# Altium schematic symbol library F52R-1A7H1-11008.SchLib: 1 symbol
Pins are listed as number, name and electrical type; pins without a type are passive.

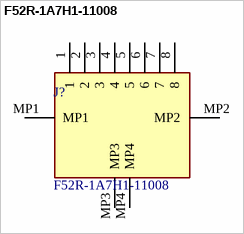
[diagram p0: symbol F52R-1A7H1-11008]

## F52R-1A7H1-11008
designator J?
Flex Connector, 1.00mm Pitch, Height 2.00mm, Right angle, Slider type, ZIF, Bottom contact, 8 position , Without MYLAR; Manufacturer_Name: Amphenol Communications Solutions; Geometry.Height: 2.25mm; Mouser Part Number: 649-F52R-1A7H1-11008; Mouser Price/Stock: https://www.mouser.co.uk/ProductDetail/Amphenol-Aorora/F52R-1A7H1-11008?qs=xZ%2FP%252Ba9zWqZEjx1hhk5Q2Q%3D%3D; Manufacturer_Part_Number: F52R-1A7H1-11008; Datasheet Link: https://cdn.amphenol-cs.com/media/wysiwyg/files/drawing/f52r.pdf
footprint F52R1A7H111008
pins: 1, 2, 3, 4, 5, 6, 7, 8, MP1, MP2, MP3, MP4